# Altium footprint library WE-PoE+.PcbLib: 22 footprints (part 1 of 2)
Each footprint in its own frame and in the unit in brackets; x right, y up, seen from the top. Pads: shape width x height; smd on the part's side, far side on the other; paste and mask are expansions set on the pad; w line width, h text height; cw(c..) or ccw(c..) is an arc to the next point about the centre after c.
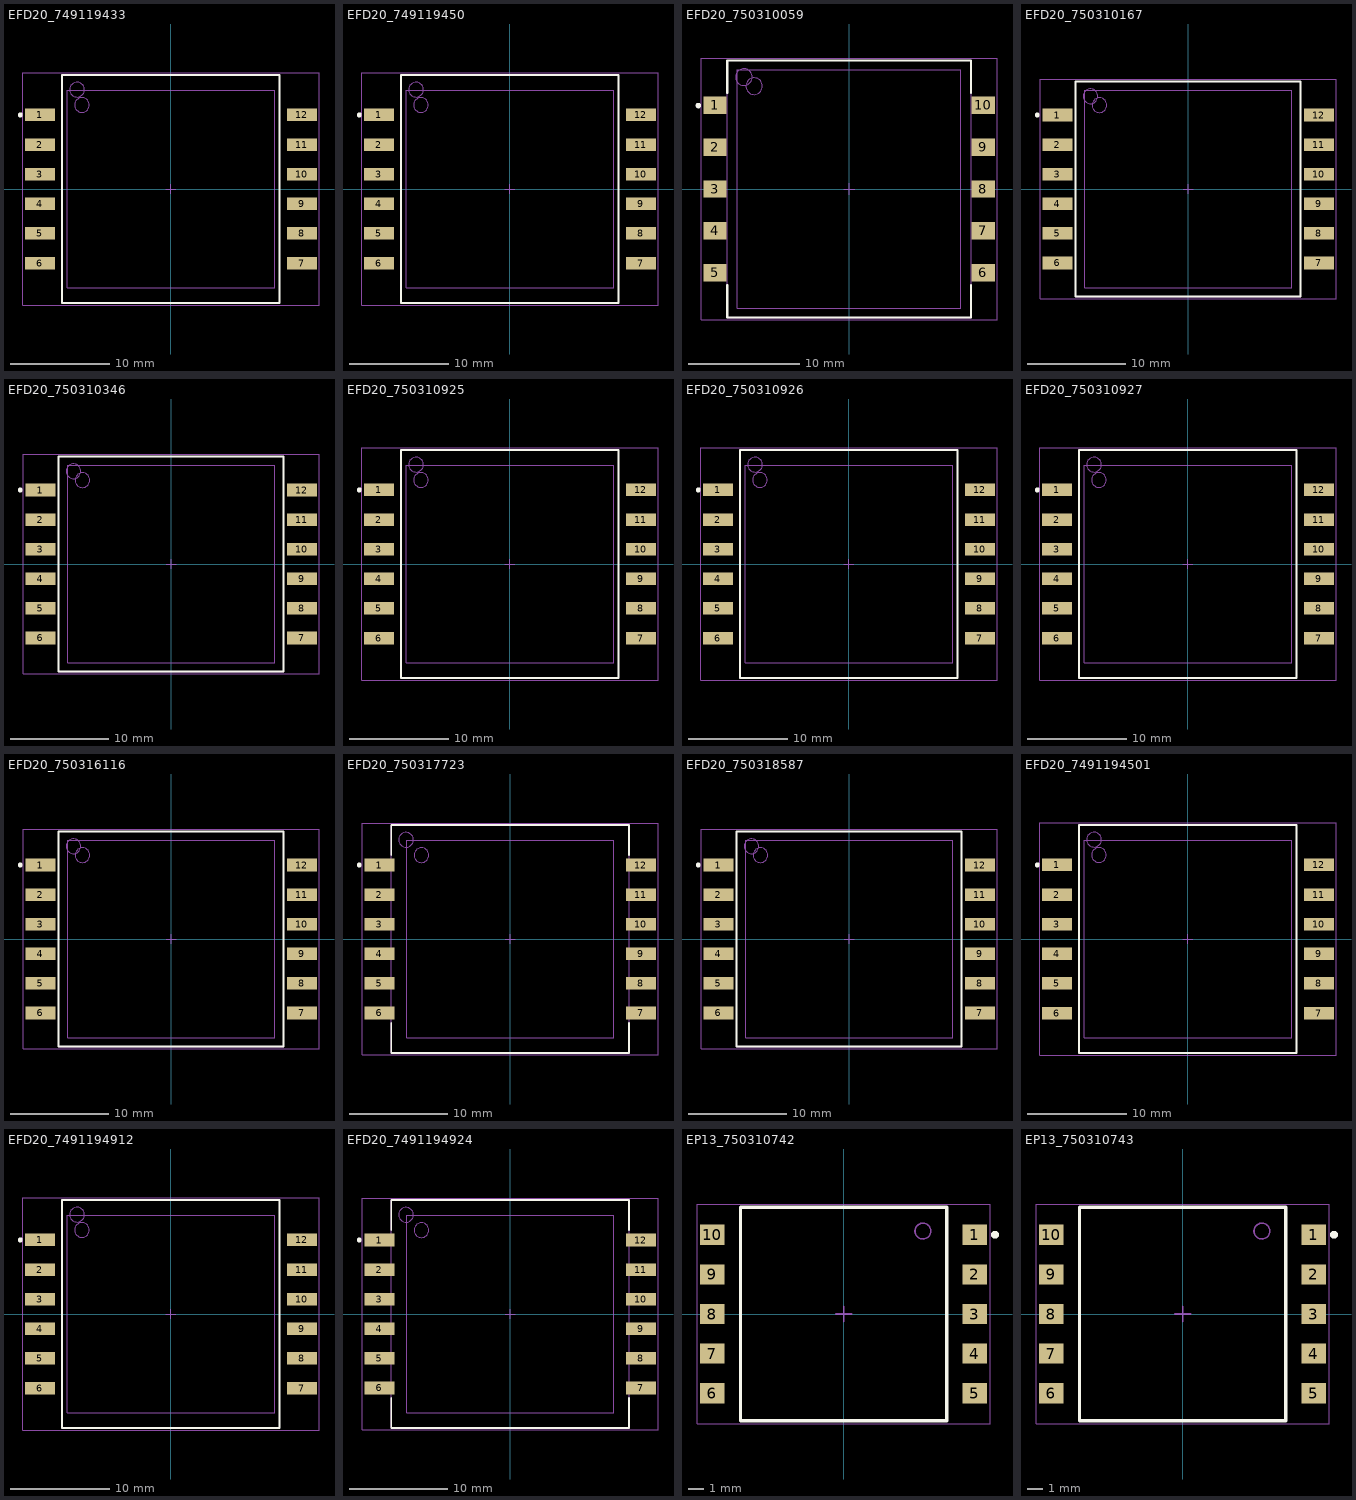
[diagram p0: the footprints below, top view; thin cyan lines are the x and y axes]

## EFD20_749119433 [mm] "Power over Ethernet Plus Transformer, EFD20, body 23.11 x 22.00 mm"
height 11.43
pads (12):
  rect 3.05x1.27 smd: 1(-13.26,7.5) 2(-13.26,4.5) 3(-13.26,1.5) 4(-13.26,-1.5) 5(-13.26,-4.5) 6(-13.26,-7.5) 7(13.26,-7.5) 8(13.26,-4.5) 9(13.26,-1.5) 10(13.26,1.5) 11(13.26,4.5) 12(13.26,7.5)
Top Overlay:
  circle w0.25: c-15.25,7.5 r0.125
  lines w0.2: -11,-11.555 11,-11.555 11,11.555 -11,11.555 -11,-11.555
Top Assembly:
  circle w0.1: c-9.5,10.055 r0.75
  lines w0.1: -11,-11.555 11,-11.555 11,11.555 -11,11.555 -11,-11.555
Top Designator:
  text ".Designator" at -3.647,-0.357 h1
Top 3D Body:
  circle w0.1: c-9,8.5 r0.75
  lines w0.1: -10.5,-10 10.5,-10 10.5,10 -10.5,10 -10.5,-10
Top Courtyard:
  lines w0.05: -14.985,-11.755 14.985,-11.755 14.985,11.755 -14.985,11.755 -14.985,-11.755
Top Component Center:
  lines w0.1: -0.5,0 0.5,0 ; 0,-0.5 0,0.5
3D body "EFD20_7491194501.stp": height 11.43, standoff 0, extent -14.54,-10 14.54,10

## EFD20_749119450 [mm] "Power over Ethernet Plus Transformer, EFD20, body 23.11 x 22.00 mm"
height 11.43
pads (12):
  rect 3.05x1.27 smd: 1(-13.26,7.5) 2(-13.26,4.5) 3(-13.26,1.5) 4(-13.26,-1.5) 5(-13.26,-4.5) 6(-13.26,-7.5) 7(13.26,-7.5) 8(13.26,-4.5) 9(13.26,-1.5) 10(13.26,1.5) 11(13.26,4.5) 12(13.26,7.5)
Top Overlay:
  circle w0.25: c-15.25,7.5 r0.125
  lines w0.2: -11,-11.555 11,-11.555 11,11.555 -11,11.555 -11,-11.555
Top Assembly:
  circle w0.1: c-9.5,10.055 r0.75
  lines w0.1: -11,-11.555 11,-11.555 11,11.555 -11,11.555 -11,-11.555
Top Designator:
  text ".Designator" at -3.647,-0.357 h1
Top 3D Body:
  circle w0.1: c-9,8.5 r0.75
  lines w0.1: -10.5,-10 10.5,-10 10.5,10 -10.5,10 -10.5,-10
Top Courtyard:
  lines w0.05: -14.985,-11.755 14.985,-11.755 14.985,11.755 -14.985,11.755 -14.985,-11.755
Top Component Center:
  lines w0.1: -0.5,0 0.5,0 ; 0,-0.5 0,0.5
3D body "EFD20_7491194501.stp": height 11.43, standoff 0, extent -14.54,-10 14.54,10

## EFD20_750310059 [mm] "Power over Ethernet Plus Transformer, size EFD20"
height 10.92
pads (10):
  rect 2.08x1.55 smd: 1(-12.05,7.52) 2(-12.05,3.76) 3(-12.05,0) 4(-12.05,-3.76) 5(-12.05,-7.52) 6(12.05,-7.52) 7(12.05,-3.76) 8(12.05,0) 9(12.05,3.76) 10(12.05,7.52)
Top Overlay:
  circle w0.25: c-13.55,7.5 r0.125
  lines w0.2: -10.955,-8.65 -10.955,-11.555 10.955,-11.555 10.955,-8.65 ; -10.955,8.65 -10.955,11.555 10.955,11.555 10.955,8.65
Top Assembly:
  circle w0.1: c-9.455,10.055 r0.75
  lines w0.1: -10.955,-11.555 10.955,-11.555 10.955,11.555 -10.955,11.555 -10.955,-11.555
Top Designator:
  text ".Designator" at -3.647,-0.357 h1
Top 3D Body:
  circle w0.1: c-8.54,9.24 r0.75
  lines w0.1: -10.04,-10.74 10.04,-10.74 10.04,10.74 -10.04,10.74 -10.04,-10.74
Top Courtyard:
  lines w0.05: -13.29,-11.755 -13.29,11.755 13.29,11.755 13.29,-11.755 -13.29,-11.755
Top Component Center:
  lines w0.1: -0.5,0 0.5,0 ; 0,-0.5 0,0.5
3D body "Download_STP_070-4290_0169 (rev1).STEP": height 10.56, standoff 0.03, extent -12.54,-10.74 12.54,10.74

## EFD20_750310167 [mm] "Power over Ethernet Plus Transformer"
height 11.43
pads (12):
  rect 3.05x1.27 smd: 1(-13.26,7.5) 2(-13.26,4.5) 3(-13.26,1.5) 4(-13.26,-1.5) 5(-13.26,-4.5) 6(-13.26,-7.5) 7(13.26,-7.5) 8(13.26,-4.5) 9(13.26,-1.5) 10(13.26,1.5) 11(13.26,4.5) 12(13.26,7.5)
Top Overlay:
  circle w0.25: c-15.3,7.5 r0.125
  lines w0.2: -11.4,-10.9 11.4,-10.9 11.4,10.9 -11.4,10.9 -11.4,-10.9
Top Assembly:
  circle w0.1: c-9.9,9.4 r0.75
  lines w0.1: -11.4,-10.9 -11.4,10.9 11.4,10.9 11.4,-10.9 -11.4,-10.9
Top Designator:
  text ".Designator" at -3.647,-0.357 h1
Top 3D Body:
  circle w0.1: c-9,8.5 r0.75
  lines w0.1: -10.5,-10 -10.5,10 10.5,10 10.5,-10 -10.5,-10
Top Courtyard:
  lines w0.05: -14.985,-11.1 -14.985,11.1 14.985,11.1 14.985,-11.1 -14.985,-11.1
Top Component Center:
  lines w0.1: -0.5,0 0.5,0 ; 0,-0.5 0,0.5
3D body "WE-PoE_Plus_EFD20 (rev1).stp": height 11.45, standoff 0.02, extent -14.54,-10 14.54,10

## EFD20_750310346 [mm] "Power over Ethernet Plus Transformer"
height 11.43
pads (12):
  rect 3.05x1.27 smd: 1(-13.26,7.5) 2(-13.26,4.5) 3(-13.26,1.5) 4(-13.26,-1.5) 5(-13.26,-4.5) 6(-13.26,-7.5) 7(13.26,-7.5) 8(13.26,-4.5) 9(13.26,-1.5) 10(13.26,1.5) 11(13.26,4.5) 12(13.26,7.5)
Top Overlay:
  circle w0.25: c-15.3,7.5 r0.125
  lines w0.2: -11.4,-10.9 11.4,-10.9 11.4,10.9 -11.4,10.9 -11.4,-10.9
Top Assembly:
  circle w0.1: c-9.9,9.4 r0.75
  lines w0.1: -11.4,-10.9 -11.4,10.9 11.4,10.9 11.4,-10.9 -11.4,-10.9
Top Designator:
  text ".Designator" at -3.647,-0.357 h1
Top 3D Body:
  circle w0.1: c-9,8.5 r0.75
  lines w0.1: -10.5,-10 -10.5,10 10.5,10 10.5,-10 -10.5,-10
Top Courtyard:
  lines w0.05: -14.985,-11.1 -14.985,11.1 14.985,11.1 14.985,-11.1 -14.985,-11.1
Top Component Center:
  lines w0.1: -0.5,0 0.5,0 ; 0,-0.5 0,0.5
3D body "WE-PoE_Plus_EFD20 (rev1).stp": height 11.45, standoff 0.02, extent -14.54,-10 14.54,10

## EFD20_750310925 [mm] "Power over Ethernet Plus Transformer, EFD20, body 23.11 x 22.00 mm"
height 11.43
pads (12):
  rect 3.05x1.27 smd: 1(-13.26,7.5) 2(-13.26,4.5) 3(-13.26,1.5) 4(-13.26,-1.5) 5(-13.26,-4.5) 6(-13.26,-7.5) 7(13.26,-7.5) 8(13.26,-4.5) 9(13.26,-1.5) 10(13.26,1.5) 11(13.26,4.5) 12(13.26,7.5)
Top Overlay:
  circle w0.25: c-15.25,7.5 r0.125
  lines w0.2: -11,-11.555 -11,11.555 11,11.555 11,-11.555 -11,-11.555
Top Assembly:
  circle w0.1: c-9.5,10.055 r0.75
  lines w0.1: -11,-11.555 -11,11.555 11,11.555 11,-11.555 -11,-11.555
Top Designator:
  text ".Designator" at -3.647,-0.357 h1
Top 3D Body:
  circle w0.1: c-9,8.5 r0.75
  lines w0.1: -10.5,-10 -10.5,10 10.5,10 10.5,-10 -10.5,-10
Top Courtyard:
  lines w0.05: -14.985,-11.755 -14.985,11.755 14.985,11.755 14.985,-11.755 -14.985,-11.755
Top Component Center:
  lines w0.1: -0.5,0 0.5,0 ; 0,-0.5 0,0.5
3D body "EFD20_7491194501.stp": height 11.43, standoff 0, extent -14.54,-10 14.54,10

## EFD20_750310926 [mm] "Power over Ethernet Plus Transformer, EFD20, body 23.11 x 22.00 mm"
height 11.43
pads (12):
  rect 3.05x1.27 smd: 1(-13.26,7.5) 2(-13.26,4.5) 3(-13.26,1.5) 4(-13.26,-1.5) 5(-13.26,-4.5) 6(-13.26,-7.5) 7(13.26,-7.5) 8(13.26,-4.5) 9(13.26,-1.5) 10(13.26,1.5) 11(13.26,4.5) 12(13.26,7.5)
Top Overlay:
  circle w0.25: c-15.25,7.5 r0.125
  lines w0.2: -11,-11.555 -11,11.555 11,11.555 11,-11.555 -11,-11.555
Top Assembly:
  circle w0.1: c-9.5,10.055 r0.75
  lines w0.1: -11,-11.555 -11,11.555 11,11.555 11,-11.555 -11,-11.555
Top Designator:
  text ".Designator" at -3.647,-0.357 h1
Top 3D Body:
  circle w0.1: c-9,8.5 r0.75
  lines w0.1: -10.5,-10 -10.5,10 10.5,10 10.5,-10 -10.5,-10
Top Courtyard:
  lines w0.05: -14.985,-11.755 -14.985,11.755 14.985,11.755 14.985,-11.755 -14.985,-11.755
Top Component Center:
  lines w0.1: -0.5,0 0.5,0 ; 0,-0.5 0,0.5
3D body "EFD20_7491194501.stp": height 11.43, standoff 0, extent -14.54,-10 14.54,10

## EFD20_750310927 [mm] "Power over Ethernet Plus Transformer, EFD20, body 23.11 x 22.00 mm"
height 11.43
pads (12):
  rect 3.05x1.27 smd: 1(-13.26,7.5) 2(-13.26,4.5) 3(-13.26,1.5) 4(-13.26,-1.5) 5(-13.26,-4.5) 6(-13.26,-7.5) 7(13.26,-7.5) 8(13.26,-4.5) 9(13.26,-1.5) 10(13.26,1.5) 11(13.26,4.5) 12(13.26,7.5)
Top Overlay:
  circle w0.25: c-15.25,7.5 r0.125
  lines w0.2: -11,-11.555 11,-11.555 11,11.555 -11,11.555 -11,-11.555
Top Assembly:
  circle w0.1: c-9.5,10.055 r0.75
  lines w0.1: -11,-11.555 11,-11.555 11,11.555 -11,11.555 -11,-11.555
Top Designator:
  text ".Designator" at -3.647,-0.357 h1
Top 3D Body:
  circle w0.1: c-9,8.5 r0.75
  lines w0.1: -10.5,-10 10.5,-10 10.5,10 -10.5,10 -10.5,-10
Top Courtyard:
  lines w0.05: -14.985,-11.755 14.985,-11.755 14.985,11.755 -14.985,11.755 -14.985,-11.755
Top Component Center:
  lines w0.1: -0.5,0 0.5,0 ; 0,-0.5 0,0.5
3D body "EFD20_7491194501.stp": height 11.43, standoff 0, extent -14.54,-10 14.54,10

## EFD20_750316116 [mm] "Power over Ethernet Plus Transformer"
height 11.43
pads (12):
  rect 3.05x1.27 smd: 1(-13.26,7.5) 2(-13.26,4.5) 3(-13.26,1.5) 4(-13.26,-1.5) 5(-13.26,-4.5) 6(-13.26,-7.5) 7(13.26,-7.5) 8(13.26,-4.5) 9(13.26,-1.5) 10(13.26,1.5) 11(13.26,4.5) 12(13.26,7.5)
Top Overlay:
  circle w0.25: c-15.3,7.5 r0.125
  lines w0.2: -11.4,-10.9 11.4,-10.9 11.4,10.9 -11.4,10.9 -11.4,-10.9
Top Assembly:
  circle w0.1: c-9.9,9.4 r0.75
  lines w0.1: -11.4,-10.9 -11.4,10.9 11.4,10.9 11.4,-10.9 -11.4,-10.9
Top Designator:
  text ".Designator" at -3.647,-0.357 h1
Top 3D Body:
  circle w0.1: c-9,8.5 r0.75
  lines w0.1: -10.5,-10 -10.5,10 10.5,10 10.5,-10 -10.5,-10
Top Courtyard:
  lines w0.05: -14.985,-11.1 -14.985,11.1 14.985,11.1 14.985,-11.1 -14.985,-11.1
Top Component Center:
  lines w0.1: -0.5,0 0.5,0 ; 0,-0.5 0,0.5
3D body "WE-PoE_Plus_EFD20 (rev1).stp": height 11.45, standoff 0.02, extent -14.54,-10 14.54,10

## EFD20_750317723 [mm] "Power over Ethernet Plus Transformer"
height 11.43
pads (12):
  rect 3.05x1.27 smd: 1(-13.26,7.5) 2(-13.26,4.5) 3(-13.26,1.5) 4(-13.26,-1.5) 5(-13.26,-4.5) 6(-13.26,-7.5) 7(13.26,-7.5) 8(13.26,-4.5) 9(13.26,-1.5) 10(13.26,1.5) 11(13.26,4.5) 12(13.26,7.5)
Top Overlay:
  circle w0.25: c-15.3,7.5 r0.125
  lines w0.2: -12.055,-8.5 -12.055,-11.555 12.055,-11.555 12.055,-8.5 ; -12.055,8.5 -12.055,11.555 12.055,11.555 12.055,8.5
Top Assembly:
  circle w0.1: c-10.555,10.055 r0.75
  lines w0.1: -12.055,-11.555 -12.055,11.555 12.055,11.555 12.055,-11.555 -12.055,-11.555
Top Designator:
  text ".Designator" at -3.647,-0.357 h1
Top 3D Body:
  circle w0.1: c-9,8.5 r0.75
  lines w0.1: -10.5,-10 -10.5,10 10.5,10 10.5,-10 -10.5,-10
Top Courtyard:
  lines w0.05: -14.985,-11.755 -14.985,11.755 14.985,11.755 14.985,-11.755 -14.985,-11.755
Top Component Center:
  lines w0.1: -0.5,0 0.5,0 ; 0,-0.5 0,0.5
3D body "WE-PoE_Plus_EFD20 (rev1).stp": height 11.45, standoff 0.02, extent -14.54,-10 14.54,10

## EFD20_750318587 [mm] "Power over Ethernet Plus Transformer"
height 11.43
pads (12):
  rect 3.05x1.27 smd: 1(-13.26,7.5) 2(-13.26,4.5) 3(-13.26,1.5) 4(-13.26,-1.5) 5(-13.26,-4.5) 6(-13.26,-7.5) 7(13.26,-7.5) 8(13.26,-4.5) 9(13.26,-1.5) 10(13.26,1.5) 11(13.26,4.5) 12(13.26,7.5)
Top Overlay:
  circle w0.25: c-15.3,7.5 r0.125
  lines w0.2: -11.4,-10.9 11.4,-10.9 11.4,10.9 -11.4,10.9 -11.4,-10.9
Top Assembly:
  circle w0.1: c-9.9,9.4 r0.75
  lines w0.1: -11.4,-10.9 -11.4,10.9 11.4,10.9 11.4,-10.9 -11.4,-10.9
Top Designator:
  text ".Designator" at -3.647,-0.357 h1
Top 3D Body:
  circle w0.1: c-9,8.5 r0.75
  lines w0.1: -10.5,-10 -10.5,10 10.5,10 10.5,-10 -10.5,-10
Top Courtyard:
  lines w0.05: -14.985,-11.1 -14.985,11.1 14.985,11.1 14.985,-11.1 -14.985,-11.1
Top Component Center:
  lines w0.1: -0.5,0 0.5,0 ; 0,-0.5 0,0.5
3D body "WE-PoE_Plus_EFD20 (rev1).stp": height 11.45, standoff 0.02, extent -14.54,-10 14.54,10

## EFD20_7491194501 [mm] "Power over Ethernet Plus Transformer, EFD20, body 23.11 x 22.00 mm"
height 11.43
pads (12):
  rect 3.05x1.27 smd: 1(-13.26,7.5) 2(-13.26,4.5) 3(-13.26,1.5) 4(-13.26,-1.5) 5(-13.26,-4.5) 6(-13.26,-7.5) 7(13.26,-7.5) 8(13.26,-4.5) 9(13.26,-1.5) 10(13.26,1.5) 11(13.26,4.5) 12(13.26,7.5)
Top Overlay:
  circle w0.25: c-15.25,7.5 r0.125
  lines w0.2: -11,-11.555 11,-11.555 11,11.555 -11,11.555 -11,-11.555
Top Assembly:
  circle w0.1: c-9.5,10.055 r0.75
  lines w0.1: -11,-11.555 11,-11.555 11,11.555 -11,11.555 -11,-11.555
Top Designator:
  text ".Designator" at -3.647,-0.357 h1
Top 3D Body:
  circle w0.1: c-9,8.5 r0.75
  lines w0.1: -10.5,-10 10.5,-10 10.5,10 -10.5,10 -10.5,-10
Top Courtyard:
  lines w0.05: -14.985,-11.755 14.985,-11.755 14.985,11.755 -14.985,11.755 -14.985,-11.755
Top Component Center:
  lines w0.1: -0.5,0 0.5,0 ; 0,-0.5 0,0.5
3D body "EFD20_7491194501.stp": height 11.43, standoff 0, extent -14.54,-10 14.54,10

## EFD20_7491194912 [mm] "Power over Ethernet Plus Transformer, EFD20, body 23.11 x 22.00 mm"
height 11.43
pads (12):
  rect 3.05x1.27 smd: 1(-13.26,7.5) 2(-13.26,4.5) 3(-13.26,1.5) 4(-13.26,-1.5) 5(-13.26,-4.5) 6(-13.26,-7.5) 7(13.26,-7.5) 8(13.26,-4.5) 9(13.26,-1.5) 10(13.26,1.5) 11(13.26,4.5) 12(13.26,7.5)
Top Overlay:
  circle w0.25: c-15.25,7.5 r0.125
  lines w0.2: -11,-11.555 11,-11.555 11,11.555 -11,11.555 -11,-11.555
Top Assembly:
  circle w0.1: c-9.5,10.055 r0.75
  lines w0.1: -11,-11.555 11,-11.555 11,11.555 -11,11.555 -11,-11.555
Top Designator:
  text ".Designator" at -3.647,-0.357 h1
Top 3D Body:
  circle w0.1: c-9,8.5 r0.75
  lines w0.1: -10.5,-10 10.5,-10 10.5,10 -10.5,10 -10.5,-10
Top Courtyard:
  lines w0.05: -14.985,-11.755 14.985,-11.755 14.985,11.755 -14.985,11.755 -14.985,-11.755
Top Component Center:
  lines w0.1: -0.5,0 0.5,0 ; 0,-0.5 0,0.5
3D body "EFD20_7491194501.stp": height 11.43, standoff 0, extent -14.54,-10 14.54,10

## EFD20_7491194924 [mm] "Power over Ethernet Plus Transformer"
height 11.43
pads (12):
  rect 3.05x1.27 smd: 1(-13.26,7.5) 2(-13.26,4.5) 3(-13.26,1.5) 4(-13.26,-1.5) 5(-13.26,-4.5) 6(-13.26,-7.5) 7(13.26,-7.5) 8(13.26,-4.5) 9(13.26,-1.5) 10(13.26,1.5) 11(13.26,4.5) 12(13.26,7.5)
Top Overlay:
  circle w0.25: c-15.3,7.5 r0.125
  lines w0.2: -12.055,-8.5 -12.055,-11.555 12.055,-11.555 12.055,-8.5 ; -12.055,8.5 -12.055,11.555 12.055,11.555 12.055,8.5
Top Assembly:
  circle w0.1: c-10.555,10.055 r0.75
  lines w0.1: -12.055,-11.555 -12.055,11.555 12.055,11.555 12.055,-11.555 -12.055,-11.555
Top Designator:
  text ".Designator" at -3.647,-0.357 h1
Top 3D Body:
  circle w0.1: c-9,8.5 r0.75
  lines w0.1: -10.5,-10 -10.5,10 10.5,10 10.5,-10 -10.5,-10
Top Courtyard:
  lines w0.05: -14.985,-11.755 -14.985,11.755 14.985,11.755 14.985,-11.755 -14.985,-11.755
Top Component Center:
  lines w0.1: -0.5,0 0.5,0 ; 0,-0.5 0,0.5
3D body "WE-PoE_Plus_EFD20 (rev1).stp": height 11.45, standoff 0.02, extent -14.54,-10 14.54,10

## EP13_750310742 [mm] "Power over Ethernet Plus Transformer, EP13, body 13.46 x 13.00 mm"
height 12.7
pads (10):
  rect 1.55x1.27 smd: 1(8.275,5) 2(8.275,2.5) 3(8.275,0) 4(8.275,-2.5) 5(8.275,-5) 6(-8.275,-5) 7(-8.275,-2.5) 8(-8.275,0) 9(-8.275,2.5) 10(-8.275,5)
Top Overlay:
  circle w0.25: c9.55,5 r0.125
  lines w0.2: -6.5,-6.73 6.5,-6.73 6.5,6.73 -6.5,6.73 -6.5,-6.73
Top Assembly:
  circle w0.1: c5,5.23 r0.5
  lines w0.1: -6.5,-6.73 -6.5,6.73 6.5,6.73 6.5,-6.73 -6.5,-6.73
Top Designator:
  text ".Designator" at -3.647,-0.357 h1
Top 3D Body:
  circle w0.1: c5,5.23 r0.5
  lines w0.1: -6.5,-6.73 -6.5,6.73 6.5,6.73 6.5,-6.73 -6.5,-6.73
Top Courtyard:
  lines w0.05: -9.25,-6.93 9.25,-6.93 9.25,6.93 -9.25,6.93 -9.25,-6.93
Top Component Center:
  lines w0.1: -0.5,0 0.5,0 ; 0,-0.5 0,0.5
3D body "EP13_749119933.stp": height 12.5, standoff 0, extent -8.875,-6.75 8.875,6.75

## EP13_750310743 [mm] "Power over Ethernet Plus Transformer, EP13, body 13.46 x 13.00 mm"
height 12.7
pads (10):
  rect 1.55x1.27 smd: 1(8.275,5) 2(8.275,2.5) 3(8.275,0) 4(8.275,-2.5) 5(8.275,-5) 6(-8.275,-5) 7(-8.275,-2.5) 8(-8.275,0) 9(-8.275,2.5) 10(-8.275,5)
Top Overlay:
  circle w0.25: c9.55,5 r0.125
  lines w0.2: -6.5,-6.73 6.5,-6.73 6.5,6.73 -6.5,6.73 -6.5,-6.73
Top Assembly:
  circle w0.1: c5,5.23 r0.5
  lines w0.1: -6.5,-6.73 -6.5,6.73 6.5,6.73 6.5,-6.73 -6.5,-6.73
Top Designator:
  text ".Designator" at -3.647,-0.357 h1
Top 3D Body:
  circle w0.1: c5,5.23 r0.5
  lines w0.1: -6.5,-6.73 -6.5,6.73 6.5,6.73 6.5,-6.73 -6.5,-6.73
Top Courtyard:
  lines w0.05: -9.25,-6.93 9.25,-6.93 9.25,6.93 -9.25,6.93 -9.25,-6.93
Top Component Center:
  lines w0.1: -0.5,0 0.5,0 ; 0,-0.5 0,0.5
3D body "EP13_749119933.stp": height 12.5, standoff 0, extent -8.875,-6.75 8.875,6.75